# EAGLE library part PI7C9X2G404ELZXAE (library PI7C9X2G404ELZXAE)
PCI Interface IC 4Port 4 Lane PCIe2.0 Packet Switch 136AQFN Source: Datasheet <https://www.diodes.com//assets/Datasheets/PI7C9X2G404EL.pdf>
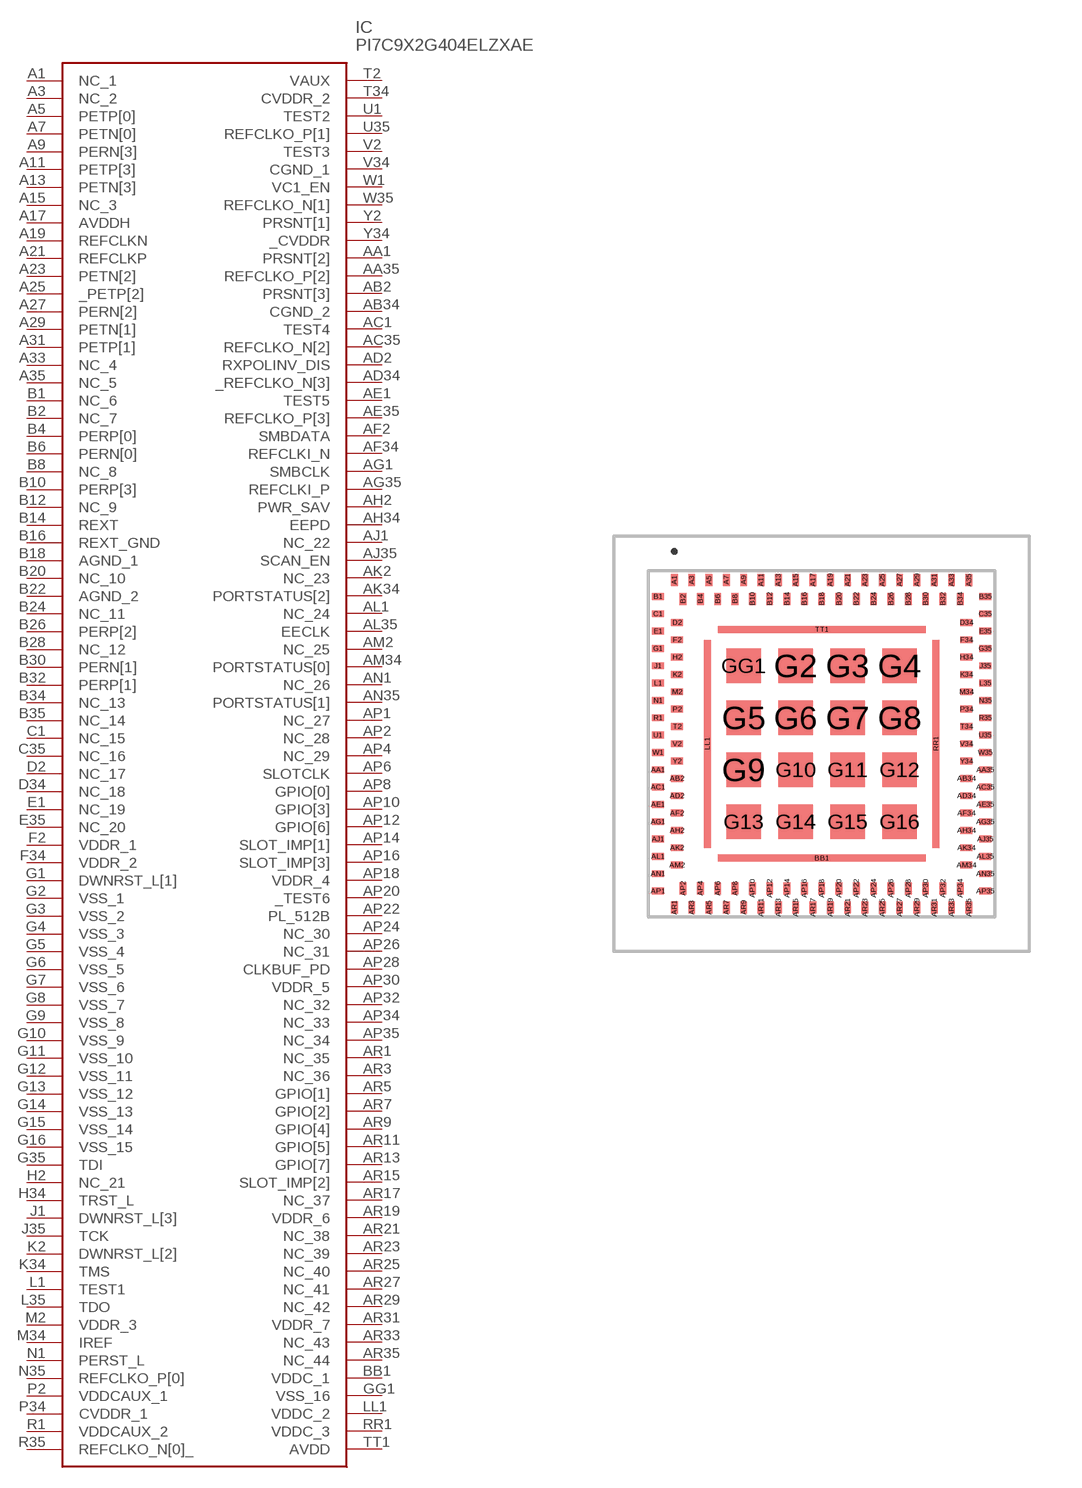
[diagram p0: symbol with the pads of PI7C9X2G404ELZXAE; footprint PI7C9X2G404ELZXAE]

Designator prefix IC

## PI7C9X2G404ELZXAE (Description: PCI Interface IC 4Port 4 Lane PCIe2.0 Packet Switch 136AQFN; Height: 0.85mm; Manufacturer_Name: Diodes Incorporated; Manufacturer_Part_Number: PI7C9X2G404ELZXAE; Mouser_Part_Number: 729-PI7C9X2G404ELZXA; Mouser_Price-Stock: https://www.mouser.co.uk/ProductDetail/Diodes-Incorporated/PI7C9X2G404ELZXAE?qs=GaJ26EWJkZQvPKJjTx940w%3D%3D)  [PI7C9X2G404ELZXAE]
A1  NC_1
A3  NC_2
A5  PETP[0]
A7  PETN[0]
A9  PERN[3]
A11  PETP[3]
A13  PETN[3]
A15  NC_3
A17  AVDDH
A19  REFCLKN
A21  REFCLKP
A23  PETN[2]
A25  _PETP[2]
A27  PERN[2]
A29  PETN[1]
A31  PETP[1]
A33  NC_4
A35  NC_5
AA1  PRSNT[2]
AA35  REFCLKO_P[2]
AB2  PRSNT[3]
AB34  CGND_2
AC1  TEST4
AC35  REFCLKO_N[2]
AD2  RXPOLINV_DIS
AD34  _REFCLKO_N[3]
AE1  TEST5
AE35  REFCLKO_P[3]
AF2  SMBDATA
AF34  REFCLKI_N
AG1  SMBCLK
AG35  REFCLKI_P
AH2  PWR_SAV
AH34  EEPD
AJ1  NC_22
AJ35  SCAN_EN
AK2  NC_23
AK34  PORTSTATUS[2]
AL1  NC_24
AL35  EECLK
AM2  NC_25
AM34  PORTSTATUS[0]
AN1  NC_26
AN35  PORTSTATUS[1]
AP1  NC_27
AP2  NC_28
AP4  NC_29
AP6  SLOTCLK
AP8  GPIO[0]
AP10  GPIO[3]
AP12  GPIO[6]
AP14  SLOT_IMP[1]
AP16  SLOT_IMP[3]
AP18  VDDR_4
AP20  _TEST6
AP22  PL_512B
AP24  NC_30
AP26  NC_31
AP28  CLKBUF_PD
AP30  VDDR_5
AP32  NC_32
AP34  NC_33
AP35  NC_34
AR1  NC_35
AR3  NC_36
AR5  GPIO[1]
AR7  GPIO[2]
AR9  GPIO[4]
AR11  GPIO[5]
AR13  GPIO[7]
AR15  SLOT_IMP[2]
AR17  NC_37
AR19  VDDR_6
AR21  NC_38
AR23  NC_39
AR25  NC_40
AR27  NC_41
AR29  NC_42
AR31  VDDR_7
AR33  NC_43
AR35  NC_44
B1  NC_6
B2  NC_7
B4  PERP[0]
B6  PERN[0]
B8  NC_8
B10  PERP[3]
B12  NC_9
B14  REXT
B16  REXT_GND
B18  AGND_1
B20  NC_10
B22  AGND_2
B24  NC_11
B26  PERP[2]
B28  NC_12
B30  PERN[1]
B32  PERP[1]
B34  NC_13
B35  NC_14
BB1  VDDC_1
C1  NC_15
C35  NC_16
D2  NC_17
D34  NC_18
E1  NC_19
E35  NC_20
F2  VDDR_1
F34  VDDR_2
G1  DWNRST_L[1]
G2  VSS_1
G3  VSS_2
G4  VSS_3
G5  VSS_4
G6  VSS_5
G7  VSS_6
G8  VSS_7
G9  VSS_8
G10  VSS_9
G11  VSS_10
G12  VSS_11
G13  VSS_12
G14  VSS_13
G15  VSS_14
G16  VSS_15
G35  TDI
GG1  VSS_16
H2  NC_21
H34  TRST_L
J1  DWNRST_L[3]
J35  TCK
K2  DWNRST_L[2]
K34  TMS
L1  TEST1
L35  TDO
LL1  VDDC_2
M2  VDDR_3
M34  IREF
N1  PERST_L
N35  REFCLKO_P[0]
P2  VDDCAUX_1
P34  CVDDR_1
R1  VDDCAUX_2
R35  REFCLKO_N[0]_
RR1  VDDC_3
T2  VAUX
T34  CVDDR_2
TT1  AVDD
U1  TEST2
U35  REFCLKO_P[1]
V2  TEST3
V34  CGND_1
W1  VC1_EN
W35  REFCLKO_N[1]
Y2  PRSNT[1]
Y34  _CVDDR

## Footprint PI7C9X2G404ELZXAE (pad centres in mm)
PI7C9X2G404ELZXAE-7
smd 0.2 x 0.35: A1 -4.25,4.725; A3 -3.75,4.725; A5 -3.25,4.725; A7 -2.75,4.725; A9 -2.25,4.725; A11 -1.75,4.725; A13 -1.25,4.725; A15 -0.75,4.725; A17 -0.25,4.725; A19 0.25,4.725; A21 0.75,4.725; A23 1.25,4.725; A25 1.75,4.725; A27 2.25,4.725; A29 2.75,4.725; A31 3.25,4.725; A33 3.75,4.725; A35 4.25,4.725; AP2 -4,-4.175; AP4 -3.5,-4.175; AP6 -3,-4.175; AP8 -2.5,-4.175; AP10 -2,-4.175; AP12 -1.5,-4.175; AP14 -1,-4.175; AP16 -0.5,-4.175; AP18 0,-4.175; AP20 0.5,-4.175; AP22 1,-4.175; AP24 1.5,-4.175; AP26 2,-4.175; AP28 2.5,-4.175; AP30 3,-4.175; AP32 3.5,-4.175; AP34 4,-4.175; AR1 -4.25,-4.725; AR3 -3.75,-4.725; AR5 -3.25,-4.725; AR7 -2.75,-4.725; AR9 -2.25,-4.725; AR11 -1.75,-4.725; AR13 -1.25,-4.725; AR15 -0.75,-4.725; AR17 -0.25,-4.725; AR19 0.25,-4.725; AR21 0.75,-4.725; AR23 1.25,-4.725; AR25 1.75,-4.725; AR27 2.25,-4.725; AR29 2.75,-4.725; AR31 3.25,-4.725; AR33 3.75,-4.725; AR35 4.25,-4.725; B2 -4,4.175; B4 -3.5,4.175; B6 -3,4.175; B8 -2.5,4.175; B10 -2,4.175; B12 -1.5,4.175; B14 -1,4.175; B16 -0.5,4.175; B18 0,4.175; B20 0.5,4.175; B22 1,4.175; B24 1.5,4.175; B26 2,4.175; B28 2.5,4.175; B30 3,4.175; B32 3.5,4.175; B34 4,4.175
smd 0.35 x 0.2: AA1 -4.725,-0.75; AA35 4.725,-0.75; AB2 -4.175,-1; AB34 4.175,-1; AC1 -4.725,-1.25; AC35 4.725,-1.25; AD2 -4.175,-1.5; AD34 4.175,-1.5; AE1 -4.725,-1.75; AE35 4.725,-1.75; AF2 -4.175,-2; AF34 4.175,-2; AG1 -4.725,-2.25; AG35 4.725,-2.25; AH2 -4.175,-2.5; AH34 4.175,-2.5; AJ1 -4.725,-2.75; AJ35 4.725,-2.75; AK2 -4.175,-3; AK34 4.175,-3; AL1 -4.725,-3.25; AL35 4.725,-3.25; AM2 -4.175,-3.5; AM34 4.175,-3.5; AN1 -4.725,-3.75; AN35 4.725,-3.75; AP1 -4.725,-4.25; AP35 4.725,-4.25; B1 -4.725,4.25; B35 4.725,4.25; C1 -4.725,3.75; C35 4.725,3.75; D2 -4.175,3.5; D34 4.175,3.5; E1 -4.725,3.25; E35 4.725,3.25; F2 -4.175,3; F34 4.175,3; G1 -4.725,2.75; G35 4.725,2.75; H2 -4.175,2.5; H34 4.175,2.5; J1 -4.725,2.25; J35 4.725,2.25; K2 -4.175,2; K34 4.175,2; L1 -4.725,1.75; L35 4.725,1.75; M2 -4.175,1.5; M34 4.175,1.5; N1 -4.725,1.25; N35 4.725,1.25; P2 -4.175,1; P34 4.175,1; R1 -4.725,0.75; R35 4.725,0.75; T2 -4.175,0.5; T34 4.175,0.5; U1 -4.725,0.25; U35 4.725,0.25; V2 -4.175,0; V34 4.175,0; W1 -4.725,-0.25; W35 4.725,-0.25; Y2 -4.175,-0.5; Y34 4.175,-0.5
smd 6 x 0.2: BB1 0,-3.3; TT1 0,3.3
smd 1 x 1: G2 -0.75,2.25; G3 0.75,2.25; G4 2.25,2.25; G5 -2.25,0.75; G6 -0.75,0.75; G7 0.75,0.75; G8 2.25,0.75; G9 -2.25,-0.75; G10 -0.75,-0.75; G11 0.75,-0.75; G12 2.25,-0.75; G13 -2.25,-2.25; G14 -0.75,-2.25; G15 0.75,-2.25; G16 2.25,-2.25; GG1 -2.25,2.25
smd 0.2 x 6: LL1 -3.3,0; RR1 3.3,0